# EAGLE library part TPS2560DRCR (library ds_ic_vreg)
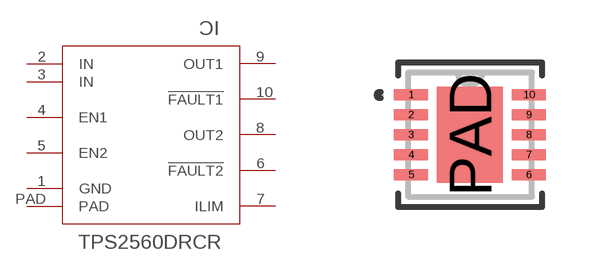
[diagram p2: symbol with the pads of VSON10-3X3; footprint VSON10-3X3]

Designator prefix IC

## TPS2560DRCR (COPYRIGHT: Copyright (C) 2025 Ultra Librarian. All rights reserved.; DESCRIPTION: VSON-10-EP(3x3) Power Distribution Switches ROHS; LCSC_PART: C140304; MANUFACTURER_PART_NUMBER: TPS2560DRCR; MFR_NAME: Texas Instruments; VALUE: TPS2560DRCR)  [VSON10-3X3]
1  GND  pwr
2  IN  in
3  IN  in
4  EN1  in
5  EN2  in
6  !FAULT2  out
7  ILIM  out
8  OUT2  out
9  OUT1  out
10  !FAULT1  out
PAD  PAD  pwr

## Footprint VSON10-3X3 (pad centres in mm)
smd 0.85 x 0.28: 1 -1.475,1; 2 -1.475,0.5; 3 -1.475,0; 4 -1.475,-0.5; 5 -1.475,-1; 6 1.475,-1; 7 1.475,-0.5; 8 1.475,0; 9 1.475,0.5; 10 1.475,1
smd 1.65 x 2.4: PAD 0,0